# Altium schematic symbol library 150080BS75000.SchLib: 1 symbol
Pins are listed as number, name and electrical type; pins without a type are passive.

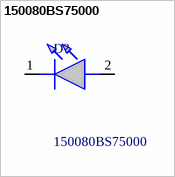
[diagram p0: symbol 150080BS75000]

## 150080BS75000
designator D?
WL-SMCW SMT Mono-Color Chip LED Waterclear 0805, Blue Typ.(@20mA): 470nm, 145mcd, 3.2V, 140 InGaN; Manufacturer_Name: Wurth Elektronik; Geometry.Height: 0.7mm; Manufacturer_Part_Number: 150080BS75000; Mouser Part Number: 710-150080BS75000; Mouser Price/Stock: https://www.mouser.co.uk/ProductDetail/Wurth-Elektronik/150080BS75000?qs=2kOmHSv6VfT2tBo3UPVqAQ%3D%3D; Arrow Part Number: *; Arrow Price/Stock: *; Datasheet Link: https://www.we-online.com/components/products/download/150080xS75000_3D+%28rev1%29.pdf
footprint LEDC2012X70N
pins: 1 K, 2 A